# Altium footprint library TSQFP50P1200X1200-64M FDA.PcbLib: 1 footprints
Each footprint in its own frame and in the unit in brackets; x right, y up, seen from the top. Pads: shape width x height; smd on the part's side, far side on the other; paste and mask are expansions set on the pad; w line width, h text height; cw(c..) or ccw(c..) is an arc to the next point about the centre after c.
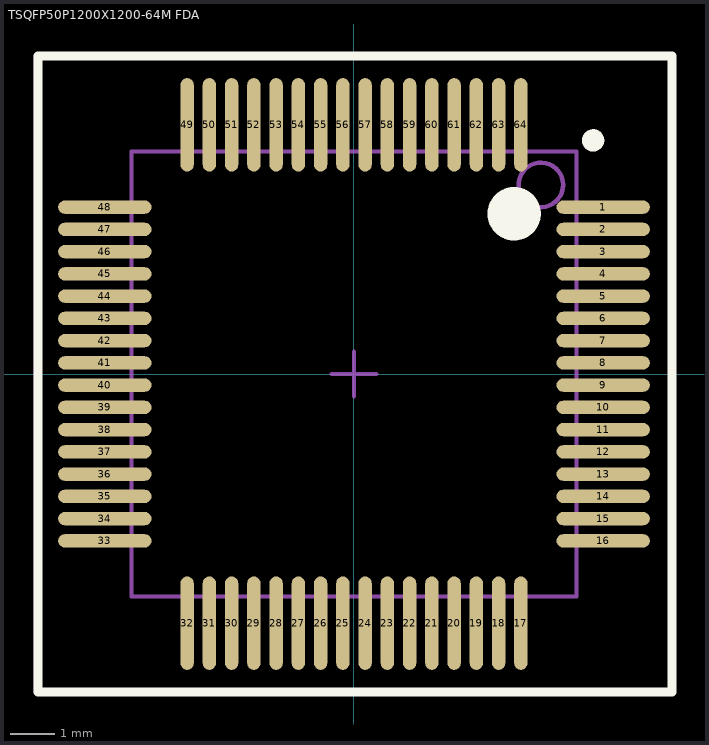
[diagram p0: the footprint, top view; thin cyan lines are the x and y axes]

## TSQFP50P1200X1200-64M FDA [mm]
pads (64):
  oval 2.1x0.3 smd: 1(5.6,3.75) 2(5.6,3.25) 3(5.6,2.75) 4(5.6,2.25) 5(5.6,1.75) 6(5.6,1.25) 7(5.6,0.75) 8(5.6,0.25) 9(5.6,-0.25) 10(5.6,-0.75) 11(5.6,-1.25) 12(5.6,-1.75) 13(5.6,-2.25) 14(5.6,-2.75) 15(5.6,-3.25) 16(5.6,-3.75) 33(-5.6,-3.75) 34(-5.6,-3.25) 35(-5.6,-2.75) 36(-5.6,-2.25) 37(-5.6,-1.75) 38(-5.6,-1.25) 39(-5.6,-0.75) 40(-5.6,-0.25) 41(-5.6,0.25) 42(-5.6,0.75) 43(-5.6,1.25) 44(-5.6,1.75) 45(-5.6,2.25) 46(-5.6,2.75) 47(-5.6,3.25) 48(-5.6,3.75)
  oval 0.3x2.1 smd: 17(3.75,-5.6) 18(3.25,-5.6) 19(2.75,-5.6) 20(2.25,-5.6) 21(1.75,-5.6) 22(1.25,-5.6) 23(0.75,-5.6) 24(0.25,-5.6) 25(-0.25,-5.6) 26(-0.75,-5.6) 27(-1.25,-5.6) 28(-1.75,-5.6) 29(-2.25,-5.6) 30(-2.75,-5.6) 31(-3.25,-5.6) 32(-3.75,-5.6) 49(-3.75,5.6) 50(-3.25,5.6) 51(-2.75,5.6) 52(-2.25,5.6) 53(-1.75,5.6) 54(-1.25,5.6) 55(-0.75,5.6) 56(-0.25,5.6) 57(0.25,5.6) 58(0.75,5.6) 59(1.25,5.6) 60(1.75,5.6) 61(2.25,5.6) 62(2.75,5.6) 63(3.25,5.6) 64(3.75,5.6)
Top Overlay:
  circle w0.25: c5.375,5.25 r0.125
  circle w0.6: c3.6,3.6 r0.3
  lines w0.2: -7.1,-7.15 -7.1,7.15 7.15,7.15 7.15,-7.15 -7.1,-7.15
Mechanical 13:
  circle w0.1: c4.2,4.25 r0.5
  lines w0.1: -5,-5 -5,5 5,5 5,-5 -5,-5
Mechanical 15:
  lines w0.1: -0.5,0 0.5,0 ; 0,-0.5 0,0.5 ; -7.15,-7.15 -7.15,7.15 7.15,7.15 7.15,-7.15 -7.15,-7.15
3D body: height 1.6, standoff 0, extent -5,-5 5,5